# EAGLE library part SI-8005Q (library Allegro_By_element14_Batch_1)
Step-Down Switching Regulator with Current-Mode Control
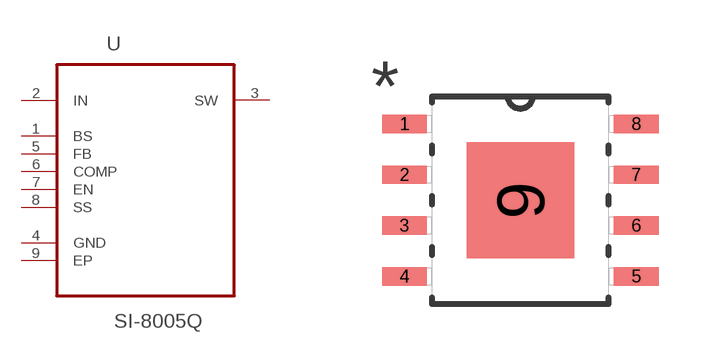
[diagram p34: symbol with the pads of SOP127P620X160-9N; footprint SOP127P620X160-9N]

Designator prefix U

## SI-8005Q (MPN: SI-8005Q; OC_FARNELL: 1791398; OC_NEWARK: 67R9074; PACKAGE: SOP-8; SUPPLIER: Allegro)  [SOP127P620X160-9N]
1  BS  pas
2  IN  pwr
3  SW  pas
4  GND  pas
5  FB  in
6  COMP  pas
7  EN  in
8  SS  in
9  EP  pas

## Footprint SOP127P620X160-9N (pad centres in mm)
smd 1.118 x 0.457: 1 -2.896,1.905; 2 -2.896,0.635; 3 -2.896,-0.635; 4 -2.896,-1.905; 5 2.896,-1.905; 6 2.896,-0.635; 7 2.896,0.635; 8 2.896,1.905
smd 2.692 x 2.896: 9 0,0